# EAGLE library part 74*125 (library Digilent)
Quad Buffer with 3-State Outputs
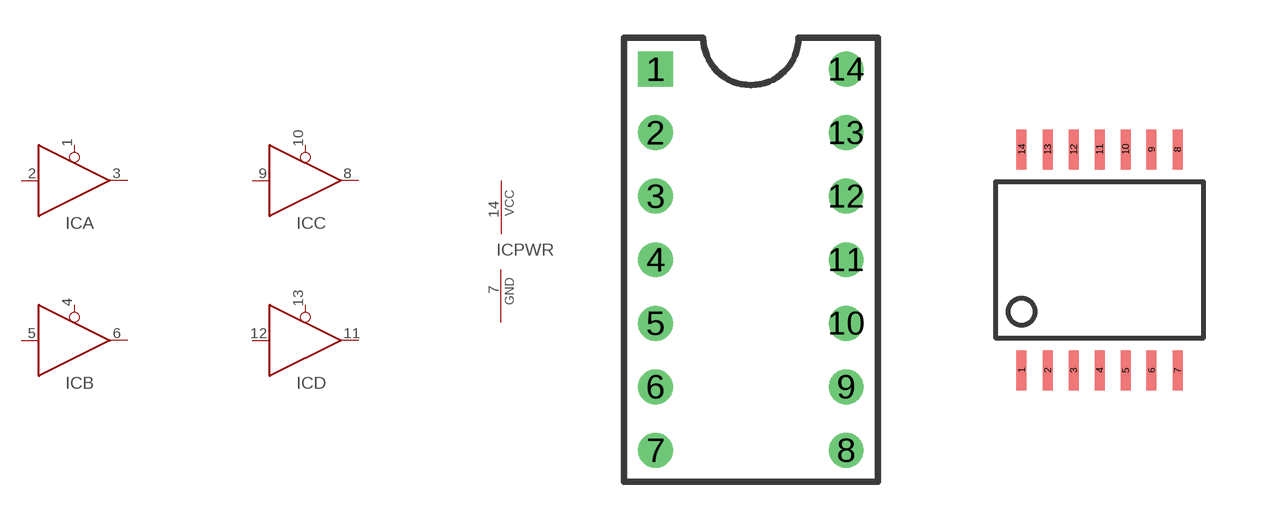
[diagram p61: symbol with the pads of DIP-14C; footprints DIP-14C, TSSOP14]

Designator prefix IC; gates A=74125 B=74125 C=74125 D=74125 PWR=PWR-VCC-GND

## 74ACT125N, 74HC125N  [DIP-14C]
1  A:EN  in
2  A:I  in
3  A:O  out
4  B:EN  in
5  B:I  in
6  B:O  out
7  PWR:GND  pwr
8  C:O  out
9  C:I  in
10  C:EN  in
11  D:O  out
12  D:I  in
13  D:EN  in
14  PWR:VCC  pwr

## 74LCX125DT  [TSSOP14]
Pads as for DIP-14C

## Footprint DIP-14C (pad centres in mm)
drill 0.889 square: 1 -3.81,7.62
drill 0.889 round: 2 -3.81,5.08; 3 -3.81,2.54; 4 -3.81,0; 5 -3.81,-2.54; 6 -3.81,-5.08; 7 -3.81,-7.62; 8 3.81,-7.62; 9 3.81,-5.08; 10 3.81,-2.54; 11 3.81,0; 12 3.81,2.54; 13 3.81,5.08; 14 3.81,7.62

## Footprint TSSOP14 (pad centres in mm)
smd 0.25 x 1: 1 -1.95,-2.763; 2 -1.3,-2.763; 3 -0.65,-2.763; 4 0,-2.763; 5 0.65,-2.763; 6 1.3,-2.763; 7 1.95,-2.763; 8 1.95,2.763; 9 1.3,2.763; 10 0.65,2.763; 11 0,2.763; 12 -0.65,2.763; 13 -1.3,2.763; 14 -1.95,2.763